# EAGLE library part 61001021121 (library Wuerth_Elektronik_eiCan_Pin_&_Socked_Headers_v1.3)
WR-PHD 2.54mm Dual SMT Pin Header, 10 Pins
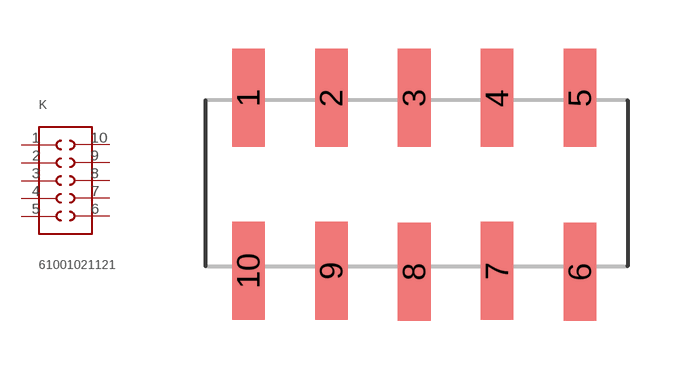
[diagram p92: symbol with the pads of 61001021121; footprint 61001021121]

Designator prefix K

## 61001021121  [61001021121]
1  1  pas
2  2  pas
3  3  pas
4  4  pas
5  5  pas
6  6  pas
7  7  pas
8  8  pas
9  9  pas
10  10  pas

## Footprint 61001021121 (pad centres in mm)
WR-PHD 2.54mm Dual SMT Pin Header, 10 Pins
smd 1 x 3: 1 -3.81,2.54; 2 -1.27,2.54; 3 1.27,2.54; 4 3.81,2.54; 5 6.35,2.54; 6 6.35,-2.79; 7 3.81,-2.76; 8 1.27,-2.79; 9 -1.27,-2.76; 10 -3.81,-2.76